# Altium footprint library JDY-10.PcbLib: 1 footprints
Each footprint in its own frame and in the unit in brackets; x right, y up, seen from the top. Pads: shape width x height; smd on the part's side, far side on the other; paste and mask are expansions set on the pad; w line width, h text height; cw(c..) or ccw(c..) is an arc to the next point about the centre after c.
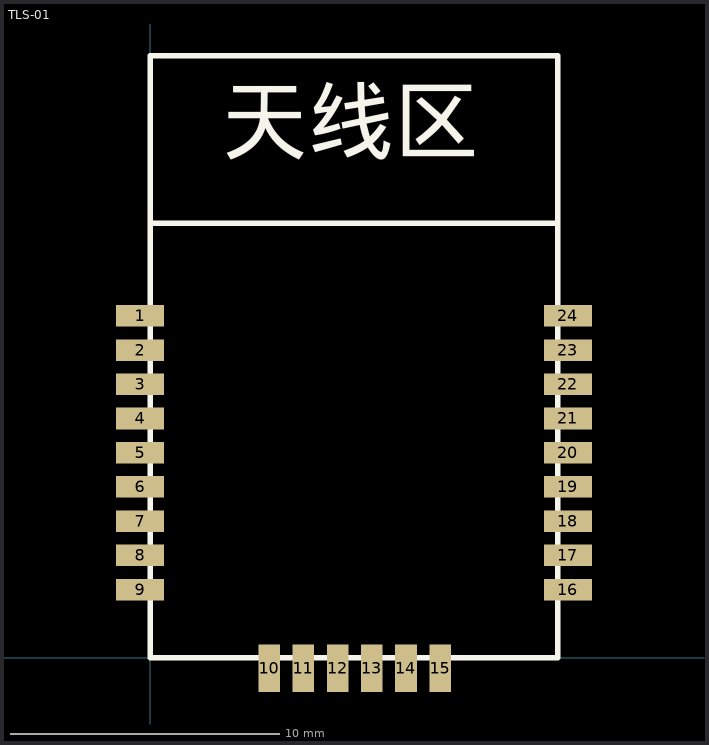
[diagram p0: the footprint, top view; thin cyan lines are the x and y axes]

## TLS-01 [mil]
pads (24):
  rect 70x31.5 smd: 1(-14.5,499.5) 2(-14.5,449.5) 3(-14.5,399.5) 4(-14.5,349.5) 5(-14.5,299.5) 6(-14.5,249.5) 7(-14.5,199.5) 8(-14.5,149.5) 9(-14.5,99.5) 16(610.5,99.5) 17(610.5,149.5) 18(610.5,199.5) 19(610.5,249.5) 20(610.5,299.5) 21(610.5,349.5) 22(610.5,399.5) 23(610.5,449.5) 24(610.5,499.5)
  rect 31.5x70 smd: 10(173.96,-15.5) 11(223.96,-15.5) 12(273.96,-15.5) 13(323.96,-15.5) 14(373.96,-15.5) 15(423.96,-15.5)
Top Overlay:
  lines w8: 0.5,634.5 595.5,634.5 ; 0.5,-0.5 595.5,-0.5 595.5,879.5 0.5,879.5 0.5,-0.5
  text "天线区" at 105.5,709.5 h157.48